# Altium footprint library МЦТР.00010572.00.0011.PcbLib: 28 footprints (part 2 of 2)
Each footprint in its own frame and in the unit in brackets; x right, y up, seen from the top. Pads: shape width x height; smd on the part's side, far side on the other; paste and mask are expansions set on the pad; w line width, h text height; cw(c..) or ccw(c..) is an arc to the next point about the centre after c.
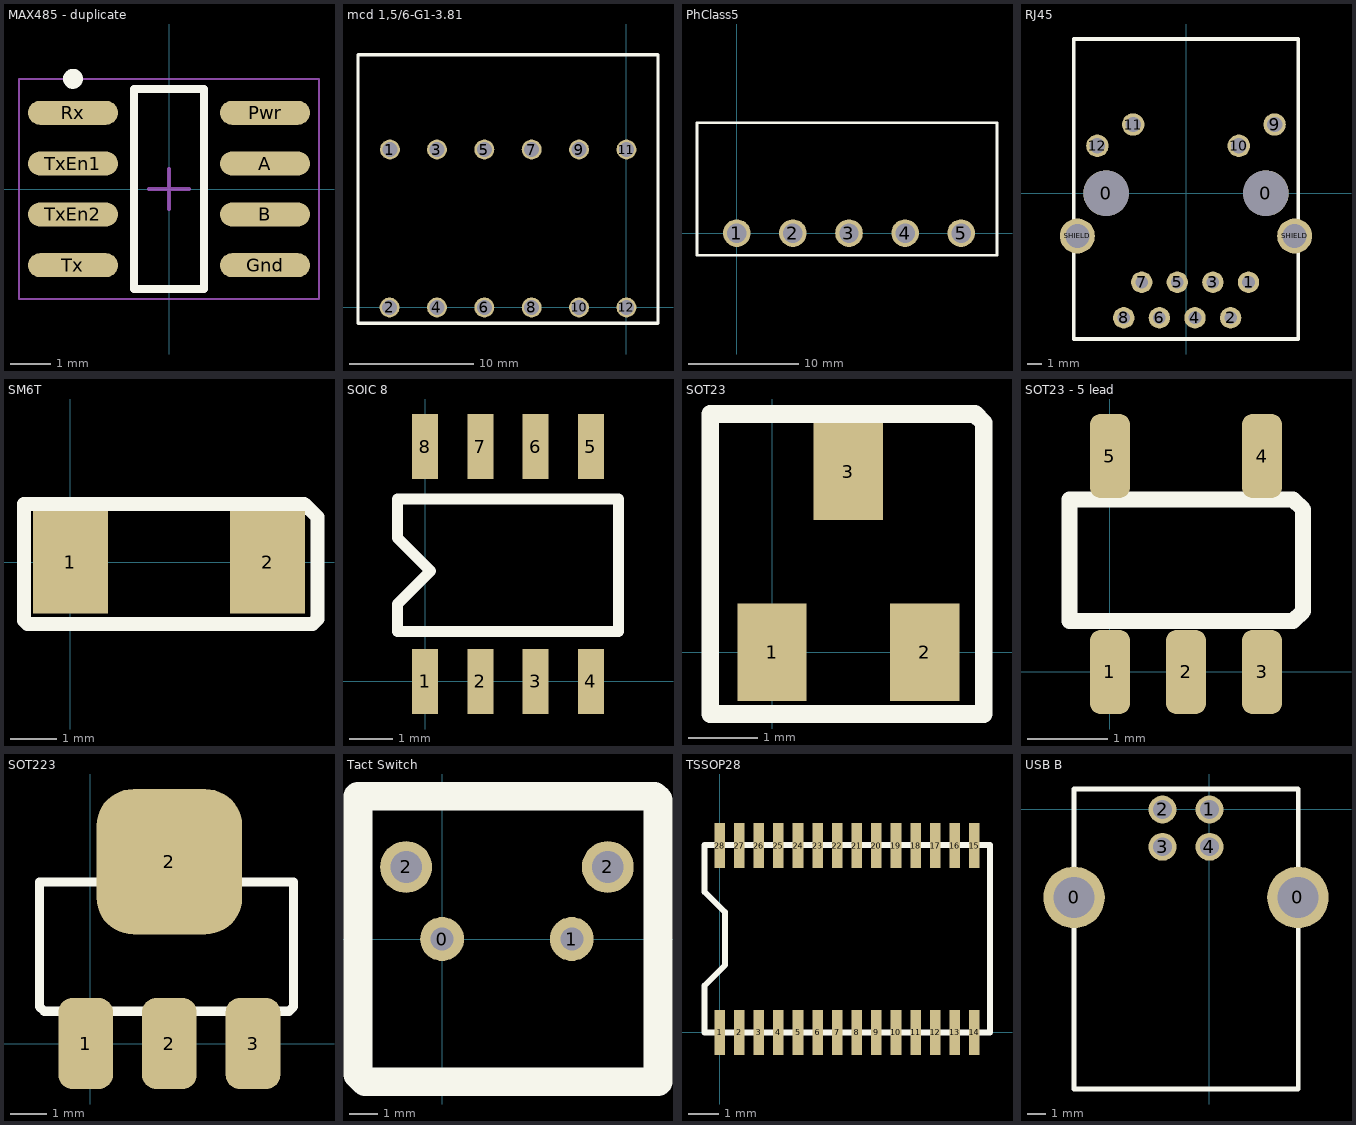
[diagram p1: the footprints below, top view; thin cyan lines are the x and y axes]

## MAX485 - duplicate [mm] "SOIC, 8-Leads, Body 4,90x3,90mm, Pitch 1,27mm, IPC Medium Density"
height 1.65
pads (8):
  oval 2.25x0.6 smd: A(2.4,0.635) B(2.4,-0.635) Gnd(2.4,-1.905) Pwr(2.4,1.905) Rx(-2.4,1.905) Tx(-2.4,-1.905) TxEn1(-2.4,0.635) TxEn2(-2.4,-0.635)
Top Overlay:
  circle w0.25: c-2.4,2.755 r0.125
  lines w0.2: -0.875,-2.5 -0.875,2.5 0.875,2.5 0.875,-2.5 -0.875,-2.5
Mechanical 15:
  lines w0.05: -3.75,-2.75 -3.75,2.75 3.75,2.75 3.75,-2.75 -3.75,-2.75
  lines w0.1: -0.5,0 0.5,0 ; 0,-0.5 0,0.5
3D body "SN65HVD32DR.STEP": height 1.75, standoff 0, extent -2.995,-2.453 2.995,2.452

## mcd 1,5/6-G1-3.81 [mm]
height 20
pads (12):
  round 1.6 hole 1.2: 1(-19.025,12.7) 2(-19.05,0) 3(-15.24,12.7) 4(-15.24,0) 5(-11.43,12.7) 6(-11.43,0) 7(-7.62,12.7) 8(-7.62,0) 9(-3.81,12.7) 10(-3.81,0) 11(0,12.7) 12(0,0)
Top Overlay:
  lines w0.254: -21.59,-1.27 -21.59,20.32 2.54,20.32 2.54,-1.27 -21.59,-1.27
3D body "pxc_184311.stp": height 22.69, standoff -3.5, extent -21.664,-1.172 2.586,20.858

## PhClass5 [mm]
height 8
pads (5):
  round 2.5 hole 1.75: 1(0,0) 2(5.08,0) 3(10.16,0) 4(15.24,0) 5(20.32,0)
Top Overlay:
  lines w0.254: -3.6,-2 23.56,-2 23.56,10 -3.6,10 -3.6,-2
3D body "pxc_1757271_06_01_MSTBA-2-5-5-G-5-08_3D.stp": height 8.57, standoff -3.5, extent -3.524,-1.84 23.876,10.16

## RJ45 [mm]
height 8
pads (16):
  round 3.25 hole 3.25 paste+0 mask+0: 0(-5.7,0) 0(5.7,0)
  round 1.524 hole 0.9: 1(4.46,-6.35) 2(3.18,-8.89) 3(1.92,-6.35) 4(0.64,-8.89) 5(-0.62,-6.35) 6(-1.9,-8.89) 7(-3.16,-6.35) 8(-4.44,-8.89)
  round 1.6 hole 1.1: 9(6.32,4.9) 10(3.77,3.38) 11(-3.77,4.9) 12(-6.32,3.38)
  round 2.5 hole 1.7: SHIELD(-7.75,-3.05) SHIELD(7.75,-3.05)
Top Overlay:
  lines w0.254: -8,-10.4 -8,11 8,11 8,-10.4 -8,-10.4
3D body "CRJ008-MG-TH--3DModel-STEP-1.STEP": height 15.45, standoff -3.78, extent -9.614,-10.863 10.283,10.637

## SM6T [mm]
height 3
pads (2):
  rect 1.6x2.2 smd: 1(0,0) 2(4.22,0)
Top Overlay:
  lines w0.3: -0.991,-1.245 -0.914,-1.321 5.182,-1.321 5.283,-1.219 5.283,0.965 5.004,1.245 -0.991,1.245 -0.991,-1.245
3D body "B360A-13-F.STEP": height 2.62, standoff 0, extent -0.411,-1.28 4.729,1.28

## SOIC 8 [mm]
height 1
pads (8):
  rect 0.6x1.5 smd: 1(0,0) 2(1.27,0) 3(2.54,0) 4(3.81,0) 5(3.81,5.4) 6(2.54,5.4) 7(1.27,5.4) 8(0,5.4)
Top Overlay:
  lines w0.254: -0.635,1.143 -0.635,1.778 0.127,2.54 -0.635,3.302 -0.635,4.191 4.445,4.191 4.445,1.143 -0.635,1.143
3D body "SN65HVD32DR.STEP": height 1.75, standoff 0, extent -0.547,-0.328 4.358,5.662

## SOT23 [mm]
height 1
pads (3):
  rect 1x1.4 smd: 1(0,0) 2(2.2,0) 3(1.1,2.6)
Top Overlay:
  lines w0.254: -0.889,-0.889 3.048,-0.889 3.048,3.302 2.921,3.429 -0.889,3.429 -0.889,-0.889
3D body "CDSOT23-SM712--3DModel-STEP-56544.STEP": height 1.17, standoff 0, extent -0.307,0.123 2.593,2.418

## SOT23 - 5 lead [mm]
height 1
pads (5):
  rrect50% 0.5x1.05 smd: 1(0,0) 2(0.95,0) 3(1.9,0) 4(1.9,2.7) 5(0,2.7)
Top Overlay:
  lines w0.2: -0.508,0.635 2.286,0.635 2.413,0.762 2.413,2.032 2.286,2.159 -0.508,2.159 -0.508,0.635
3D body "SN74LVC1G125DBVR.STEP": height 1.45, standoff 0, extent -0.561,-0.003 2.339,2.797

## SOT223 [mm]
height 1
pads (4):
  rrect50% 1.5x2.5 smd mask+0.1: 1(-0.127,0) 2(2.173,0) 3(4.473,0)
  rrect50% 4x4 smd: 2(2.173,5)
Top Overlay:
  lines w0.254: -1.397,1.016 -1.27,0.889 5.461,0.889 5.588,1.016 5.588,4.445 -1.397,4.445 -1.397,1.016
3D body "LM1117MPX-3.3.STEP": height 1.8, standoff 0, extent -1.091,-0.705 5.409,6.293

## Tact Switch [mm]
pads (4):
  round 1.524 hole 0.8: 0(0,0) 1(4.5,0)
  round 1.8 hole 1.1: 2(-1.25,2.5) 2(5.75,2.5)
Top Overlay:
  lines w1: 0.047,-4.953 7.493,-4.953 7.493,4.826 7.366,4.953 -2.921,4.953 -2.921,-4.699 -2.667,-4.953 1.397,-4.953
3D body "FSMRA4JH04--3DModel-STEP-202343.STEP": height 7.01, standoff -4, extent -2.047,-5.667 6.363,3.993

## TSSOP28 [mm]
height 1
pads (28):
  rect 0.35x1.5 smd mask+0: 1(0,0) 2(0.65,0) 3(1.3,0) 4(1.95,0) 5(2.6,0) 6(3.25,0) 7(3.9,0) 8(4.55,0) 9(5.2,0) 10(5.85,0) 11(6.5,0) 12(7.15,0) 13(7.8,0) 14(8.45,0) 15(8.45,6.2) 16(7.8,6.2) 17(7.15,6.2) 18(6.5,6.2) 19(5.85,6.2) 20(5.2,6.2) 21(4.55,6.2) 22(3.9,6.2) 23(3.25,6.2) 24(2.6,6.2) 25(1.95,6.2) 26(1.3,6.2) 27(0.65,6.2) 28(0,6.2)
Top Overlay:
  lines w0.2: -0.5,0 -0.5,1.556 0.178,2.234 0.178,3.989 -0.5,4.667 -0.5,6.223 0,6.223 7.239,6.223 8.966,6.223 8.966,0 7.239,0 0,0 -0.5,0
3D body "SC16IS752IPW,128.STEP": height 1.1, standoff 0, extent -0.659,0.102 9.041,6.502

## USB B [mm]
height 12
pads (6):
  round 3.3 hole 2.21: 0(-7.27,-4.72) 0(4.75,-4.72)
  round 1.5 hole 1: 1(0,0) 2(-2.52,0) 3(-2.52,-2) 4(0,-2)
Top Overlay:
  lines w0.254: -7.27,-15 4.77,-15 4.77,1.1 -7.27,1.1 -7.27,-15
3D body "USB-B-S-S-W-TH-R.stp": height 10.7, standoff -3.74, extent -8.393,-15.085 6.107,1.415